# Altium schematic symbol library TRANS_PMOS_CSD23381F4_1.Schlib: 1 symbol
Pins are listed as number, name and electrical type; pins without a type are passive.

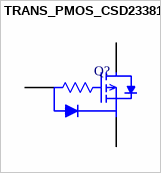
[diagram p0: symbol TRANS_PMOS_CSD23381F4]

## TRANS_PMOS_CSD23381F4
designator Q?
P-Channel 12V 2.3A (Ta) 500mW (Ta) Surface Mount 3-PICOSTAR; Manufacturer: Vishay Siliconix
footprint DFN65P100X35-3N (DFN, 3-Leads, Body 0.60x1.00mm, Pitch 0.65mm, IPC Medium Density)
pins: 1 G, 2 D, 3 S
2 alternate drawings of the same symbol